# Altium schematic symbol library Inductances.SchLib: 9 symbols
Pins are listed as number, name and electrical type; pins without a type are passive.

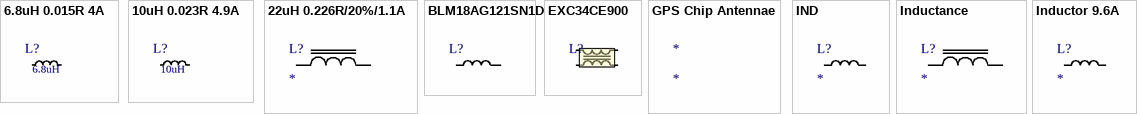
[diagram p0: symbols 6.8uH 0.015R 4A to Inductor 9.6A]

## 6.8uH 0.015R 4A
designator L?, comment value 6.8uH  (hidden comment: ELLATP6R8NB)
Power Inductor SMD; Manufacturer: PANASONIC; Part Specification: 6.8uH/15mR/4A; Manufacturer Part Num: ELLATP6R8NB; ComponentLink1Description: Datasheet; ComponentLink1URL: http://datasheet.octopart.com/ELLATP270MB-Panasonic-datasheet-17932131.pdf; Lötbarkeit RoHS: YES; Material RoHS: YES; Ordercode: ELLATP6R8NB
footprint IND 10x10x4.2
pins: 1, 2

## 10uH 0.023R 4.9A
designator L?, comment value 10uH  (hidden comment: MSS1048-103MLC)
Power Inductor SMD; Manufacturer: COILCRAFT; Part Specification: 10uH/23mR/4.79A; Manufacturer Part Num: MSS1048-103MLC; ComponentLink1Description: Datasheet; ComponentLink1URL: http://www.farnell.com/datasheets/1681949.pdf; Lötbarkeit RoHS: YES; Material RoHS: YES; Ordercode: MSS1048-103MLC
footprint Inductor 10.2x10x4.8 (Chip Inductor, 2-Leads, Body 7.8x7.0mm, IPC Medium Density)
pins: 1, 2

## 22uH 0.226R/20%/1.1A
designator L?
22uH 0.226R/20%/1.1A; Manufacturer Part Num: TYS5020220M-10; ComponentLink1Description: Datasheet; Lötbarkeit RoHS: YES; Material RoHS: YES
footprint IND 5x5x4
pins: 1, 2

## BLM18AG121SN1D
designator L?, comment Ferrite Bead, 500mA, 0.18R  (value not drawn)
Manufacturer Part Num: BLM18AG121SN1D; ComponentLink1Description: Datasheet; Lötbarkeit RoHS: YES; Material RoHS: YES
footprint 0603IND (Chip Inductor, 2-Leads, Body 1.6x0.8mm, IPC Medium Density)
pins: 1, 2

## EXC34CE900
designator L?, comment Common Mode Filter 250mA  (value not drawn)
Manufacturer Part Num: EXC34CE900; ComponentLink1Description: Datasheet; Lötbarkeit RoHS: YES; Material RoHS: YES
footprint EXC34CE900
pins: 1, 2, 3, 4

## GPS Chip Antennae
designator *
ComponentLink1Description: Datasheet; Lötbarkeit RoHS: YES; Material RoHS: YES

## IND
designator L?
ComponentLink1Description: Datasheet; Lötbarkeit RoHS: YES; Material RoHS: YES
pins: 1, 2

## Inductance
designator L?
Value: 47uH; ComponentLink1Description: Datasheet; Lötbarkeit RoHS: YES; Material RoHS: YES
footprint INDP123123X60N (Precision Wire Wound Inductor, 2-Leads, Body 12,30x12,30mm, IPC Medium Density)
footprint IND 6x6x4.5 (Precision Wire Wound Inductor, 2-Leads, Body 7,30x6,00mm, IPC Medium Density)
footprint IND 5x5x4
pins: 1, 2

## Inductor 9.6A
designator L?
ComponentLink1Description: Datasheet; Lötbarkeit RoHS: YES; Material RoHS: YES
footprint PCBComponent_1
pins: 1, 2